# Altium footprint library PicoLimitSwitchShield.PcbLib: 6 footprints
Each footprint in its own frame and in the unit in brackets; x right, y up, seen from the top. Pads: shape width x height; smd on the part's side, far side on the other; paste and mask are expansions set on the pad; w line width, h text height; cw(c..) or ccw(c..) is an arc to the next point about the centre after c.
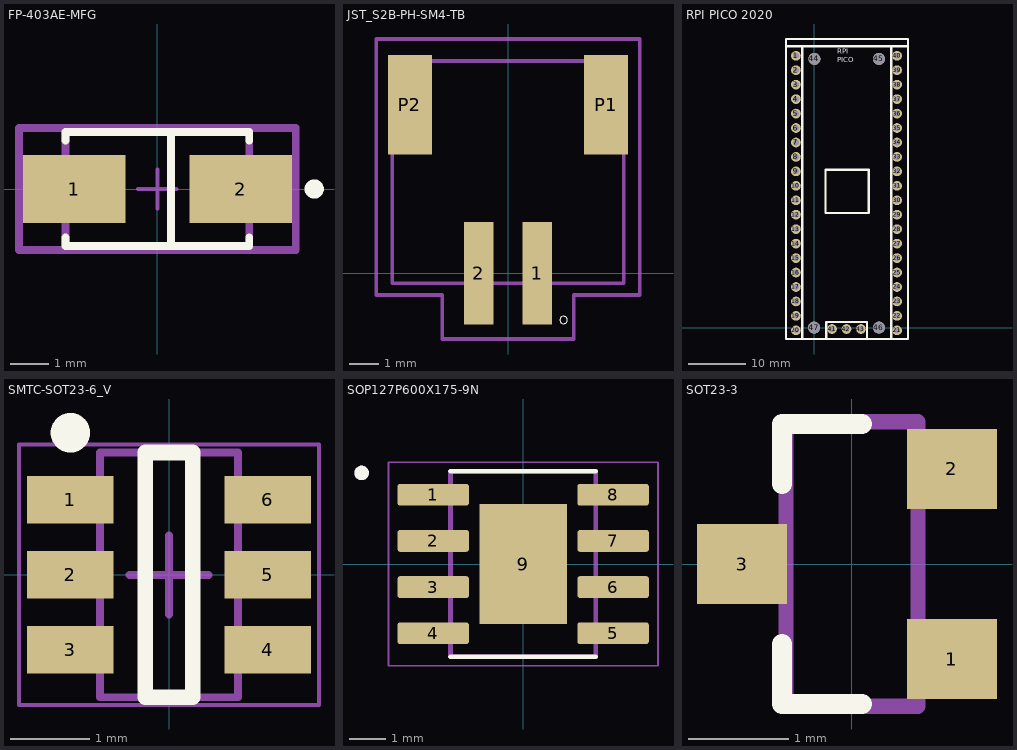
[diagram p0: the footprints below, top view; thin cyan lines are the x and y axes]

## FP-403AE-MFG [mm]
pads (2):
  rect 2.65x1.75 smd paste+0 mask+0: 1(-2.15,0) 2(2.15,0)
Top Overlay:
  circle w0.25: c4.05,0 r0.125
  lines w0.2: -2.375,-1.25 -2.375,-1.475 2.375,-1.475 2.375,-1.25 ; -2.375,1.25 -2.375,1.475 2.375,1.475 2.375,1.25 ; 0.35,-1.4 0.35,1.4
Top Component Center:
  lines w0.1: -0.5,0 0.5,0 ; 0,-0.5 0,0.5
Top Assembly:
  lines w0.2: -3.575,-1.575 3.575,-1.575 3.575,1.575 -3.575,1.575 -3.575,-1.575
  text ".Designator" at 0,-0.001 h1
Top Courtyard:
  lines w0.2: -3.575,-1.575 3.575,-1.575 3.575,1.575 -3.575,1.575 -3.575,-1.575
Top 3D Body:
  lines w0.2: -2.375,-1.475 2.375,-1.475 2.375,1.475 -2.375,1.475 -2.375,-1.475
3D body "Diode_ON_Semiconductor_SS14_eec.STEP": height 0.25, standoff 0, extent -3.575,-1.575 3.575,1.575

## JST_S2B-PH-SM4-TB [mm]
pads (4):
  rect 1x3.5 smd: 1(1,0) 2(-1,0)
  rect 1.5x3.4 smd: P1(3.35,5.75) P2(-3.35,5.75)
Top Overlay:
  circle w0: c1.9,-1.6 r0.127
Top Assembly:
  lines w0.127: -3.95,-0.35 -3.95,7.25 3.95,7.25 3.95,-0.35 -3.95,-0.35
Top Courtyard:
  lines w0.127: -4.5,-0.75 -4.5,8 4.5,8 4.5,-0.75 2.25,-0.75 2.25,-2.25 -2.25,-2.25 -2.25,-0.75 -4.5,-0.75
3D body "step_temp.STEP": height 5.5, standoff -0.1, extent -3.95,0 3.95,8.6

## RPI PICO 2020 [mm]
pads (47):
  round 1.7 hole 1: 1(-3.2,47.784) 2(-3.2,45.244) 3(-3.2,42.704) 4(-3.2,40.164) 5(-3.2,37.624) 6(-3.2,35.084) 7(-3.2,32.544) 8(-3.2,30.004) 9(-3.2,27.464) 10(-3.2,24.924) 11(-3.2,22.384) 12(-3.2,19.844) 13(-3.2,17.304) 14(-3.2,14.764) 15(-3.2,12.224) 16(-3.2,9.684) 17(-3.2,7.144) 18(-3.2,4.604) 19(-3.2,2.064) 20(-3.2,-0.476) 21(14.58,-0.476) 22(14.58,2.064) 23(14.58,4.604) 24(14.58,7.144) 25(14.58,9.684) 26(14.58,12.224) 27(14.58,14.764) 28(14.58,17.304) 29(14.58,19.844) 30(14.58,22.384) 31(14.58,24.924) 32(14.58,27.464) 33(14.58,30.004) 34(14.58,32.544) 35(14.58,35.084) 36(14.58,37.624) 37(14.58,40.164) 38(14.58,42.704) 39(14.58,45.244) 40(14.58,47.784) 41(3.15,-0.246) 42(5.69,-0.246) 43(8.23,-0.246)
  round 2.1 hole 2.1 unplated mask+0.1: 44(0.051,47.225) 45(11.4,47.225) 46(11.4,0.007) 47(0,0)
Top Overlay:
  lines w0.406: -4.877,49.462 2.388,49.462 16.383,49.462 cw(c16.383,49.36) 16.485,49.36 ; -2.083,-1.93 -2.083,49.36 ; 2.108,-1.973 2.108,0.999 9.296,0.999 9.296,-1.999 ; 13.538,-1.981 13.538,49.411 ; -4.953,-1.999 16.51,-1.999 16.51,50.324 16.51,50.732 -4.953,50.732 -4.953,50.324 -4.953,-1.999 ; 2.007,20.15 9.627,20.15 9.627,27.77 2.007,27.77 2.007,20.15
  text "RPI / PICO" at 4.021,46.253 h1.52
Board:
  text "PCB EDGE FOR USB" at 1.37,49.809 h0.76
3D body "Pico-R3.step": height 3.23, standoff -0.5, extent -4.724,-1.821 16.276,50.479

## SMTC-SOT23-6_V [mm] "SOT23, 6-Leads, Body 3.15x1.7mm, Pitch 0.95mm"
height 1.45
pads (6):
  rect 1.1x0.6 smd: 1(-1.25,0.95) 2(-1.25,0) 3(-1.25,-0.95) 4(1.25,-0.95) 5(1.25,0) 6(1.25,0.95)
Top Overlay:
  circle w0.25: c-1.25,1.8 r0.125
  lines w0.2: -0.3,-1.55 -0.3,1.55 0.3,1.55 0.3,-1.55 -0.3,-1.55
Top Assembly:
  lines w0.1: -0.875,-1.55 0.875,-1.55 0.875,1.55 -0.875,1.55 -0.875,-1.55
Top Courtyard:
  lines w0.05: -1.9,-1.65 1.9,-1.65 1.9,1.65 -1.9,1.65 -1.9,-1.65
  lines w0.1: -0.5,0 0.5,0 ; 0,-0.5 0,0.5
3D body: height 1.45, standoff 0, extent -0.875,-1.55 0.875,1.55

## SOP127P600X175-9N [mm]
height 1.75
pads (9):
  rrect25% 1.97x0.6 smd: 1(-2.475,1.905) 2(-2.475,0.635) 3(-2.475,-0.635) 4(-2.475,-1.905) 5(2.475,-1.905) 6(2.475,-0.635) 7(2.475,0.635) 8(2.475,1.905)
  rect 2.413x3.302 smd paste-3: 9(0,0)
Top Overlay:
  circle w0.2: c-4.445,2.505 r0.1
  lines w0.127: -2,-2.55 2,-2.55 ; -2,2.55 2,2.55
Top Paste:
  region: 0.645,-0.82 -0.645,-0.82 -0.645,0.82 0.645,0.82
Top Assembly:
  circle w0.2: c-4.445,2.505 r0.1
  lines w0.127: -2,-2.55 -2,2.55 2,2.55 2,-2.55 -2,-2.55
Top Courtyard:
  lines w0.05: -3.71,-2.8 -3.71,2.8 3.71,2.8 3.71,-2.8 -3.71,-2.8
3D body "step_temp.STEP": height 1.75, standoff 0, extent -3,-2.45 3,2.45

## SOT23-3 [mm]
pads (3):
  rect 0.9x0.8 smd: 1(1,-0.95) 2(1,0.95) 3(-1.1,0)
Top Overlay:
  lines w0.203: -0.7,-0.8 -0.7,-1.4 0.1,-1.4 ; -0.7,0.8 -0.7,1.4 0.1,1.4
Top Assembly:
  lines w0.152: -0.66,-1.422 0.66,-1.422 0.66,1.422 -0.66,1.422 -0.66,-1.422
3D body "step_temp.STEP": height 1.25, standoff 0, extent -1.4,-1.45 1.4,1.45